# Altium schematic symbol library MSS1P4-M3_89A.Schlib: 1 symbol
Pins are listed as number, name and electrical type; pins without a type are passive.

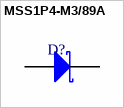
[diagram p0: symbol MSS1P4-M3/89A]

## MSS1P4-M3/89A
designator D?
Schottky Diode 1.0 Amp 40 Volt
pins: 1 A, 2 K
1 alternate drawing of the same symbol